# EAGLE library part LT1371 (library ads4)
Linear Technology 500 kHz 3A Switching Regulator
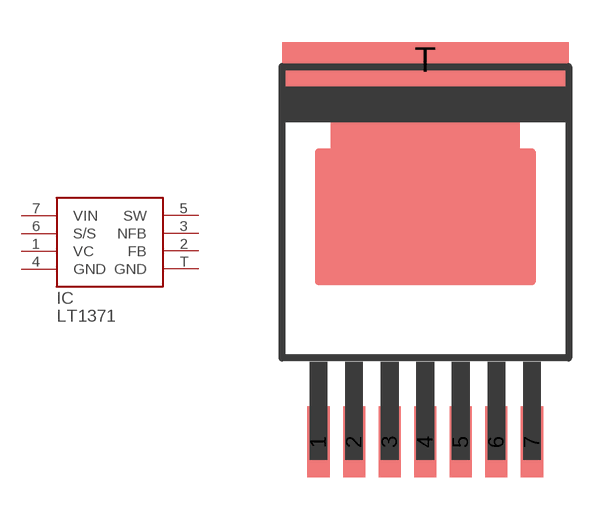
[diagram p54: symbol with the pads of 7-DD; footprint 7-DD]

Designator prefix IC

## LT1371R  [7-DD]
1  VC  pas
2  FB  pas
3  NFB  pas
4  GND  pas
5  SW  pas
6  S/S  pas
7  VIN  pas
T  GND  pas

## Footprint 7-DD (pad centres in mm)
Linear Technology 7-Lead DD "R Package"
smd 0.787 x 2.54: 1 -3.81,0; 2 -2.54,0; 3 -1.27,0; 4 0,0; 5 1.27,0; 6 2.54,0; 7 3.81,0
smd 10.223 x 1.27: T 0,13.652